# Altium integrated library RADM Components.IntLib: 99 symbols
Pins are listed as number, name and electrical type; pins without a type are passive.

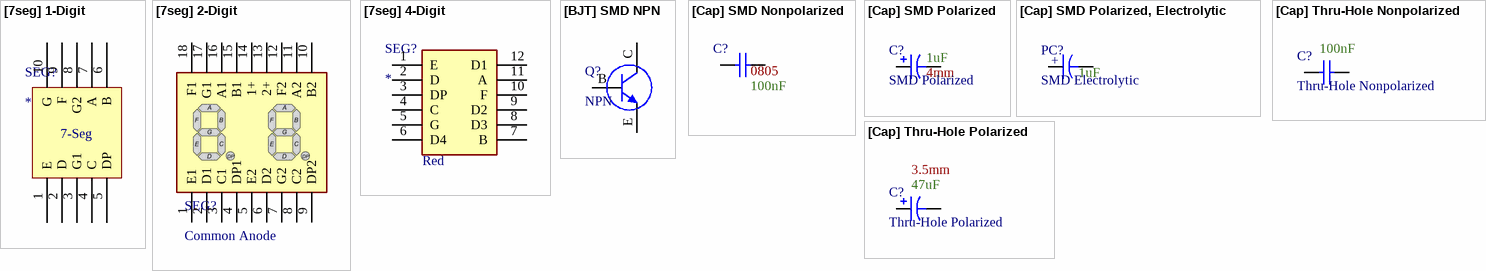
[diagram p0: symbols [7seg] 1-Digit to [Cap] Thru-Hole Polarized]

## [7seg] 1-Digit
designator SEG?
footprint [7Seg] 1 Digit
pins: 1 E (power), 2 D (power), 3 G1 (power), 4 C (power), 5 DP (power), 6 B (power), 7 A (power), 8 G2 (power), 9 F (power), 10 G (power)
text: 7-Seg

## [7seg] 2-Digit
designator SEG?, comment Common Anode
Color: *; Mouser Part #: *
footprint [7seg] 2-Digit
pins: 1 E1, 2 D1, 3 C1, 4 DP1, 5 E2, 6 D2, 7 G2, 8 C2, 9 DP2, 10 B2, 11 A2, 12 F2, 13 2+, 14 1+, 15 B1, 16 A1, 17 G1, 18 F1

## [7seg] 4-Digit
designator SEG?  Color: Red
Mouser Part #: 474-COM-11405
footprint [7seg] 4-Digit
pins: 1 E (power), 2 D (power), 3 DP (power), 4 C (power), 5 G (power), 6 D4 (power), 7 B (power), 8 D3 (power), 9 D2 (power), 10 F (power), 11 A (power), 12 D1 (power)

## [BJT] SMD NPN
designator Q?, comment NPN
footprint [BJT] NPN SMD SOT-89-3
pins: B, C, E

## [Cap] SMD Nonpolarized
designator C?, comment Size Package: 0805  Capacitance: 100nF  (hidden comment: SMD Nonpolarized)
footprint [Cap] SMD 0805
footprint [Cap] SMD 1206
footprint [Cap] SMD 1210
footprint [Cap] SMD 0603
pins: 1, 2

## [Cap] SMD Polarized
designator C?, comment SMD Polarized  Capacitance: 1uF  Diameter: 4mm
JLC Part #: *; Mouser Part #: *
footprint [Cap] SMD Polarized, 4mm
footprint [Cap] SMD Polarized, 6.3mm
footprint [Cap] SMD Polarized, 10mm
pins: 1, 2

## [Cap] SMD Polarized, Electrolytic
designator PC?, comment SMD Electrolytic  Capacitance: 1uF
footprint [Cap] SMD Polarized, Electrolytic
pins: 1, 2
text: +

## [Cap] Thru-Hole Nonpolarized
designator C?, comment Thru-Hole Nonpolarized  Capacitance: 100nF
JLC Part #: *; Mouser Part #: *
footprint [Cap] Thru-Hole Nonpolarized
pins: 1, 2

## [Cap] Thru-Hole Polarized
designator C?, comment Thru-Hole Polarized  Pin Spacing: 3.5mm  Capacitance: 47uF
JLC Part #: *; Mouser Part #: *
footprint [Cap] Thru-Hole Polarized 3.5mm (3.5mm)
footprint [Cap] Thru-Hole Polarized 5mm (5mm)
pins: 1, 2

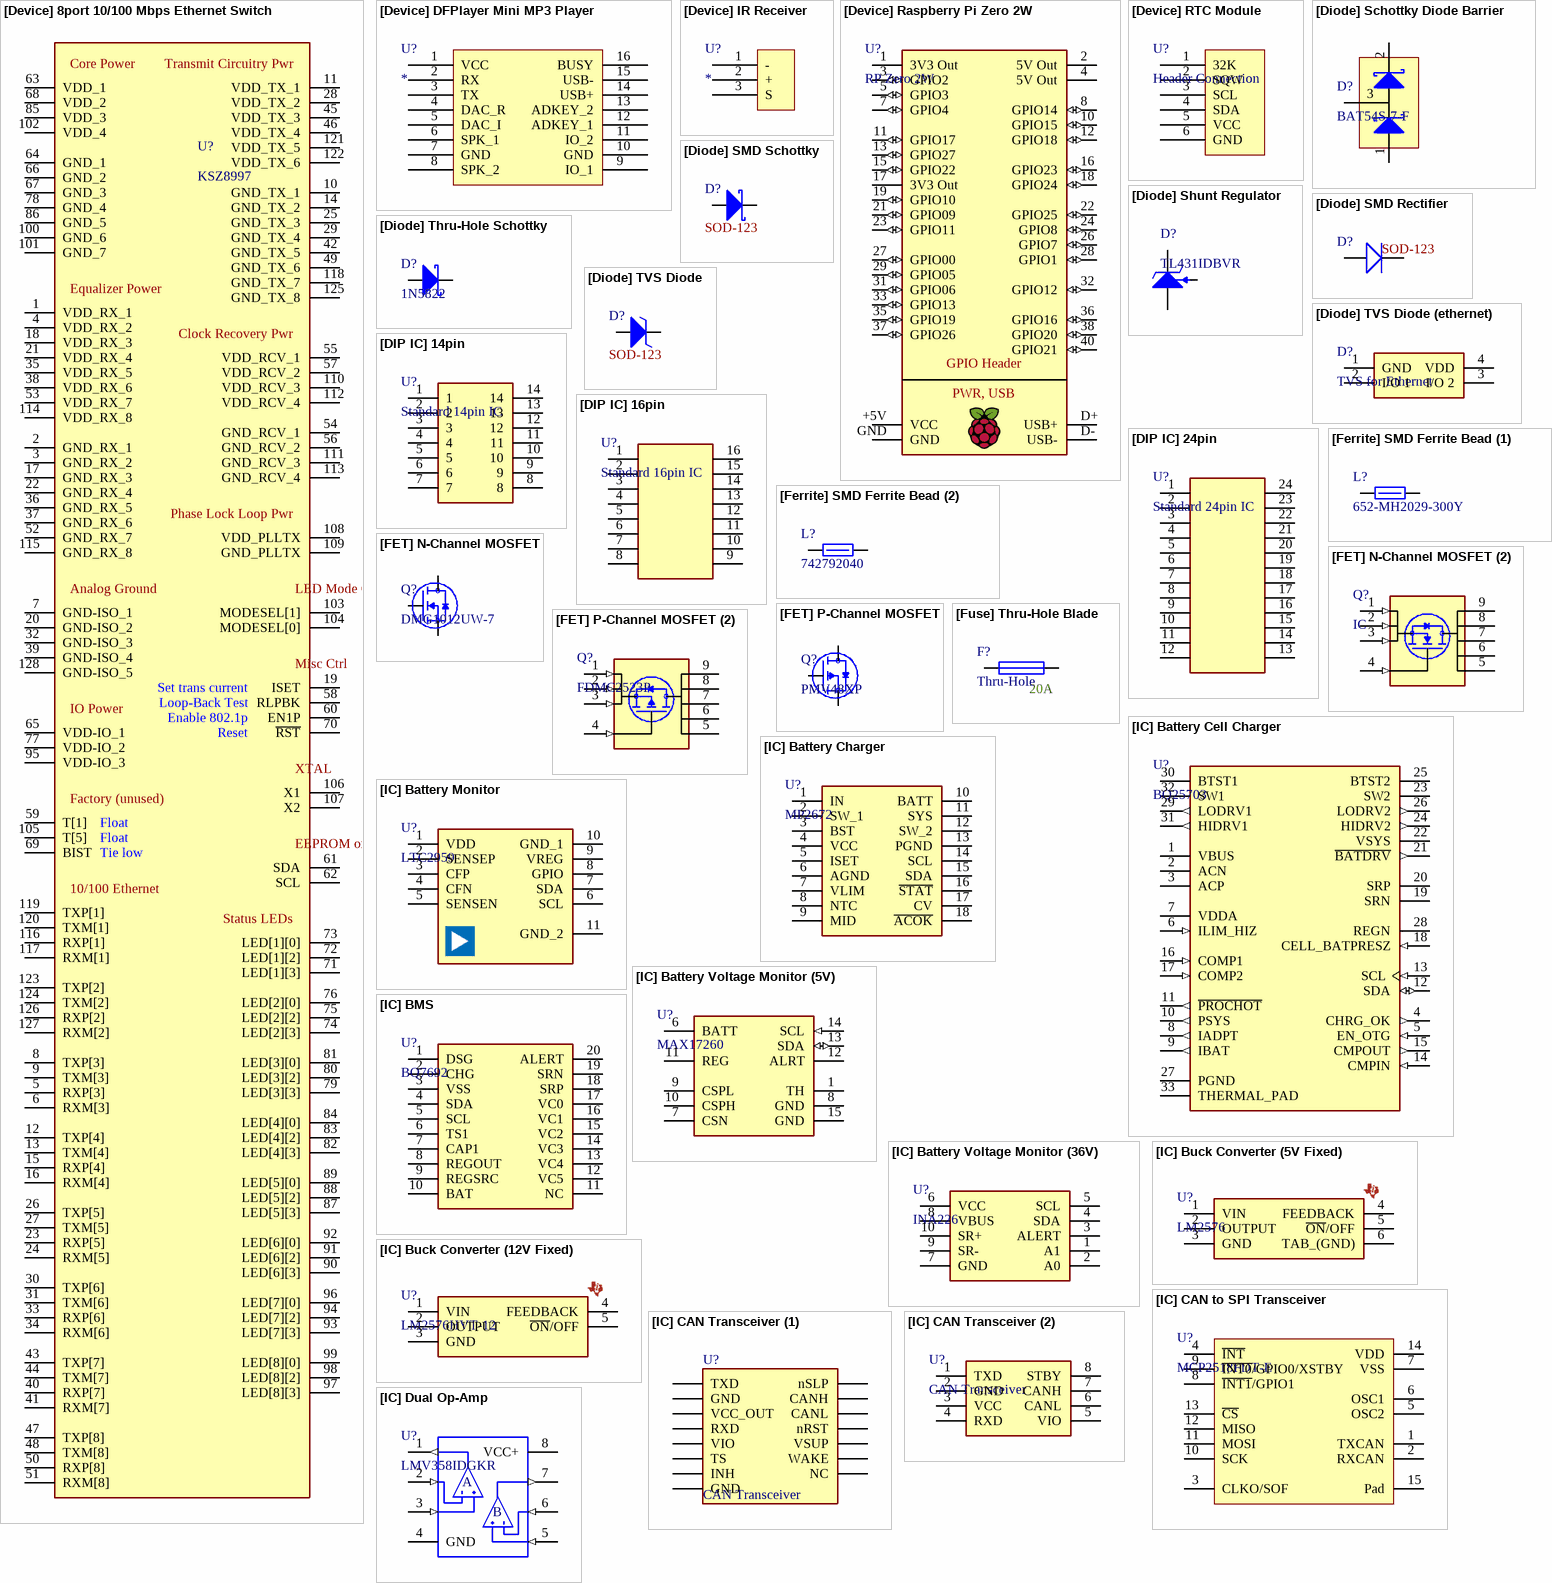
[diagram p1: symbols [Device] 8port 10/100 Mbps Ethernet Switch to [IC] Dual Op-Amp]

## [Device] 8port 10/100 Mbps Ethernet Switch
designator U?, comment KSZ8997
footprint [Device] 8port 10/100 Mbps Ethernet Switch (KSZ8997)
pins: 1 VDD_RX_1, 2 GND_RX_1, 3 GND_RX_2, 4 VDD_RX_2, 5 RXP[3], 6 RXM[3], 7 GND-ISO_1, 8 TXP[3], 9 TXM[3], 10 GND_TX_1, 11 VDD_TX_1, 12 TXP[4], 13 TXM[4], 14 GND_TX_2, 15 RXP[4], 16 RXM[4], 17 GND_RX_3, 18 VDD_RX_3, 19 ISET, 20 GND-ISO_2, 21 VDD_RX_4, 22 GND_RX_4, 23 RXP[5], 24 RXM[5], 25 GND_TX_3, 26 TXP[5], 27 TXM[5], 28 VDD_TX_2, 29 GND_TX_4, 30 TXP[6], 31 TXM[6], 32 GND-ISO_3, 33 RXP[6], 34 RXM[6], 35 VDD_RX_5, 36 GND_RX_5, 37 GND_RX_6, 38 VDD_RX_6, 39 GND-ISO_4, 40 RXP[7], 41 RXM[7], 42 GND_TX_5, 43 TXP[7], 44 TXM[7], 45 VDD_TX_3, 46 VDD_TX_4, 47 TXP[8], 48 TXM[8], 49 GND_TX_6, 50 RXP[8], 51 RXM[8], 52 GND_RX_7, 53 VDD_RX_7, 54 GND_RCV_1, 55 VDD_RCV_1, 56 GND_RCV_2, 57 VDD_RCV_2, 58 RLPBK, 59 T[1], 60 EN1P, 61 SDA, 62 SCL, 63 VDD_1, 64 GND_1, 65 VDD-IO_1, 66 GND_2, 67 GND_3, 68 VDD_2, 69 BIST, 70 ~{RST}, 71 LED[1][3], 72 LED[1][2], 73 LED[1][0], 74 LED[2][3], 75 LED[2][2], 76 LED[2][0], 77 VDD-IO_2, 78 GND_4, 79 LED[3][3], 80 LED[3][2], 81 LED[3][0], 82 LED[4][3], 83 LED[4][2], 84 LED[4][0], 85 VDD_3, 86 GND_5, 87 LED[5][3], 88 LED[5][2], 89 LED[5][0], 90 LED[6][3], 91 LED[6][2], 92 LED[6][0], 93 LED[7][3], 94 LED[7][2], 95 VDD-IO_3, 96 LED[7][0], 97 LED[8][3], 98 LED[8][2], 99 LED[8][0], 100 GND_6, 101 GND_7, 102 VDD_4, 103 MODESEL[1], 104 MODESEL[0], 105 T[5], 106 X1, 107 X2, 108 VDD_PLLTX, 109 GND_PLLTX, 110 VDD_RCV_3, 111 GND_RCV_3, 112 VDD_RCV_4, 113 GND_RCV_4, 114 VDD_RX_8, 115 GND_RX_8, 116 RXP[1], 117 RXM[1], 118 GND_TX_7, 119 TXP[1], 120 TXM[1], 121 VDD_TX_5, 122 VDD_TX_6, 123 TXP[2], 124 TXM[2], 125 GND_TX_8, 126 RXP[2], 127 RXM[2], 128 GND-ISO_5
text: Core Power; Transmit Circuitry Pwr; Equalizer Power; Clock Recovery Pwr; Phase Lock Loop Pwr; Analog Ground; LED Mode Ctrl; Misc Ctrl; Set trans current; Loop-Back Test; IO Power; Enable 802.1p; Reset; XTAL; Factory (unused); Float; Tie low; EEPROM or uP; 10/100 Ethernet; Status LEDs

## [Device] DFPlayer Mini MP3 Player
designator U?
footprint [Device] DFPlayer Mini MP3 Player
pins: 1 VCC (power), 2 RX (power), 3 TX (power), 4 DAC_R (power), 5 DAC_I (power), 6 SPK_1 (power), 7 GND (power), 8 SPK_2 (power), 9 IO_1 (power), 10 GND (power), 11 IO_2 (power), 12 ADKEY_1 (power), 13 ADKEY_2 (power), 14 USB+ (power), 15 USB- (power), 16 BUSY (power)

## [Device] IR Receiver
designator U?
footprint [Device] IR Receiver
pins: 1 - (power), 2 + (power), 3 S (power)

## [Device] Raspberry Pi Zero 2W
designator U?, comment RP Zero 2W
footprint [Device] Raspberry Pi Zero 2W
pins: 1 3V3 Out (power), 2 5V Out (power), 3 GPIO2 (io), 4 5V Out (power), 5 GPIO3 (io), 7 GPIO4 (io), 8 GPIO14 (io), 10 GPIO15 (io), 11 GPIO17 (io), 12 GPIO18 (io), 13 GPIO27 (io), 15 GPIO22 (io), 16 GPIO23 (io), 17 3V3 Out (power), 18 GPIO24 (io), 19 GPIO10 (io), 21 GPIO09 (io), 22 GPIO25 (io), 23 GPIO11 (io), 24 GPIO8 (io), 26 GPIO7 (io), 27 GPIO00 (io), 28 GPIO1 (io), 29 GPIO05 (io), 31 GPIO06 (io), 32 GPIO12 (io), 33 GPIO13 (io), 35 GPIO19 (io), 36 GPIO16 (io), 37 GPIO26 (io), 38 GPIO20 (io), 40 GPIO21 (io), +5V VCC (power), D+ USB+ (power), D- USB- (power), GND (power)
text: GPIO Header; PWR, USB

## [Device] RTC Module
designator U?, comment Header Connection
footprint [Device] RTC Module Header Connection
pins: 1 32K (power), 2 SQW (power), 3 SCL (power), 4 SDA (power), 5 VCC (power), 6 GND (power)

## [Diode] Schottky Diode Barrier
designator D?, comment BAT54S-7-F
footprint [Diode] Schottky Diode Barrier
pins: 1, 2, 3 (power)

## [Diode] Shunt Regulator
designator D?, comment TL431IDBVR
footprint [Diode] Shunt Regulator (TL431IDBVR)
pins: 3 Cathode, 4 Vref, 5 Anode

## [Diode] SMD Rectifier
designator D?, comment Size Package: SOD-123  (hidden comment: Rectifier)
Generic; Mouser Part #: *
footprint [Diode] SMD 1206
footprint [Diode] SMD SOD-323-2
footprint [Diode] SMD SOD-123
footprint [Diode] SMD DO-214AC
footprint [Diode] SMD M7
footprint [Diode] SMD DO-214AA
footprint [Diode] SMD SOD-123W (SMD SOD-123W)
pins: 1 Cathode (power), 2 Anode (power)

## [Diode] SMD Schottky
designator D?, comment Size Package: SOD-123  (hidden comment: Schottky)
Generic
footprint [Diode] SMD 1206
footprint [Diode] SMD DO-214AA
footprint [Diode] SMD DO-214AC
footprint [Diode] SMD M7
footprint [Diode] SMD SOD-123
footprint [Diode] SMD SOD-123W (SMD SOD-123W)
footprint [Diode] SMD SOD-323-2
pins: 1 K (power), 2 A (power)

## [Diode] Thru-Hole Schottky
designator D?, comment 1N5822
Mouser Part #: 511-1N5822
footprint [Diode] Thru-Hole Schottky (1N5822)
pins: 1 K, 2 A

## [Diode] TVS Diode
designator D?, comment Size Package: SOD-123  (hidden comment: TVS/Zener)
Generic
footprint [Diode] SMD DO-214AA
footprint [Diode] SMD 1206
footprint [Diode] SMD DO-214AC
footprint [Diode] SMD M7
footprint [Diode] SMD SOD-123
footprint [Diode] SMD SOD-123W (SMD SOD-123W)
footprint [Diode] SMD SOD-323-2
pins: 1 Cathode, 2 Anode

## [Diode] TVS Diode (ethernet)
designator D?, comment TVS for Ethernet
CD143A-SR2.8
footprint [Diode] TVS Diode (ethernet) (CD143A-SR2.8)
pins: 1 GND, 2 I/O 1, 3 I/O 2, 4 VDD

## [DIP IC] 14pin
designator U?, comment Standard 14pin IC
Mouser Part #: *
footprint [DIP IC] 14pin, IC (Bare IC (no socket))
footprint [DIP IC] 14pin, Socket (IC Socket)
pins: 1, 2, 3, 4, 5, 6, 7, 8, 9, 10, 11, 12, 13, 14

## [DIP IC] 16pin
designator U?, comment Standard 16pin IC
Mouser Part #: *
footprint [DIP IC] 16pin, Socket (IC Socket)
footprint [DIP IC] 16pin, IC (Bare IC (no socket))
pins: 1, 2, 3, 4, 5, 6, 7, 8, 9, 10, 11, 12, 13, 14, 15, 16

## [DIP IC] 24pin
designator U?, comment Standard 24pin IC
Mouser Part #: *
footprint [DIP IC] 24pin, IC
footprint [DIP IC] 24pin, Socket
pins: 1 (power), 2 (power), 3 (power), 4 (power), 5 (power), 6 (power), 7 (power), 8 (power), 9 (power), 10 (power), 11 (power), 12 (power), 13 (power), 14 (power), 15 (power), 16 (power), 17 (power), 18 (power), 19 (power), 20 (power), 21 (power), 22 (power), 23 (power), 24 (power)

## [Ferrite] SMD Ferrite Bead (1)
designator L?, comment 652-MH2029-300Y
Res @ Freq: 30 @ 100MHz; Size Package: 0805
footprint [Ferrite] SMD Bead 0805 (1)
pins: 1, 2

## [Ferrite] SMD Ferrite Bead (2)
designator L?, comment 742792040
Mouser Part #: 710-742792040
footprint [Ferrite] SMD Bead 0805 (2) (742792040)
pins: 1, 2

## [FET] N-Channel MOSFET
designator Q?, comment DMG1012UW-7
footprint [FET] N-Channel Mosfet (DMG1012UW-7)
pins: 1 Gate, 2 Source, 3 Drain

## [FET] N-Channel MOSFET (2)
designator Q?, comment IC
Mouser Part #: 726-BSC057N08NS3G
footprint [FET] N-Channel MOSFET BSC057N08NS3 G (BSC057N08NS3 G)
footprint [FET] N-Channel MOSFET FDMS86250 (FDMS86250)
pins: 1 Source (in), 2 Source (in), 3 Source (in), 4 Gate (in), 5 Drain, 6 Drain, 7 Drain, 8 Drain, 9 Drain

## [FET] P-Channel MOSFET
designator Q?, comment PMV48XP
JLC Part #: C2959854
footprint [FET] P-Channel Mosfet (PMV48XP)
pins: 1 G, 2 S, 3 D

## [FET] P-Channel MOSFET (2)
designator Q?, comment FDMC2523P
footprint [FET] P-Channel MOSFET (2)
pins: 1 Source (in), 2 Source (in), 3 Source (in), 4 Gate (in), 5 Drain, 6 Drain, 7 Drain, 8 Drain, 9 Drain

## [Fuse] Thru-Hole Blade
designator F?, comment Thru-Hole  Capacity: 20A
Mouser Part #: *
footprint [Fuse] Blade (1)
footprint [Fuse] Blade (2)
pins: 1, 2

## [IC] Battery Cell Charger
designator U?, comment BQ25703
BQ25703ARSNT
footprint [IC] Battery Cell Charger (BQ25703ARSNT)
pins: 1 VBUS (power), 2 ACN (power), 3 ACP (power), 4 CHRG_OK (out), 5 EN_OTG (in), 6 ILIM_HIZ (in), 7 VDDA (power), 8 IADPT (out), 9 IBAT (out), 10 PSYS (out), 11 ~{PROCHOT} (out), 12 SDA (io), 13 SCL (in), 14 CMPIN (in), 15 CMPOUT (out), 16 COMP1 (in), 17 COMP2 (in), 18 CELL_BATPRESZ (in), 19 SRN (power), 20 SRP (power), 21 ~{BATDRV} (out), 22 VSYS (power), 23 SW2 (power), 24 HIDRV2 (out), 25 BTST2 (power), 26 LODRV2 (out), 27 PGND (power), 28 REGN (power), 29 LODRV1 (out), 30 BTST1 (power), 31 HIDRV1 (out), 32 SW1 (power), 33 THERMAL_PAD (power)

## [IC] Battery Charger
designator U?, comment MP2672
MP2672GD
footprint [IC] Battery Charger (MP2672GD)
pins: 1 IN, 2 SW_1, 3 BST, 4 VCC, 5 ISET, 6 AGND, 7 VLIM, 8 NTC, 9 MID, 10 BATT, 11 SYS, 12 SW_2, 13 PGND, 14 SCL, 15 SDA, 16 ~{STAT}, 17 CV, 18 ~{ACOK}

## [IC] Battery Monitor
designator U?, comment LTC2959
Mouser Part #: 584-LTC2959IDDBTRMPB
footprint [IC] Battery Monitor (LTC2959)
pins: 1 VDD, 2 SENSEP, 3 CFP, 4 CFN, 5 SENSEN, 6 SCL, 7 SDA, 8 GPIO, 9 VREG, 10 GND_1, 11 GND_2

## [IC] Battery Voltage Monitor (5V)
designator U?, comment MAX17260
MAX17260SETD+
footprint [IC] Battery Voltage Monitor (5V) (MAX17260SETD+)
pins: 1 TH, 6 BATT (power), 7 CSN, 8 GND, 9 CSPL, 10 CSPH, 11 REG (power), 12 ALRT, 13 SDA (io), 14 SCL (in), 15 GND

## [IC] Battery Voltage Monitor (36V)
designator U?, comment INA226
INA226AIDGST
footprint [IC] Battery Voltage Monitor (36V) (INA226AIDGST)
pins: 1 A1, 2 A0, 3 ALERT, 4 SDA, 5 SCL, 6 VCC, 7 GND, 8 VBUS, 9 SR-, 10 SR+

## [IC] BMS
designator U?, comment BQ7692
footprint [IC] BMS (BQ7692)
pins: 1 DSG, 2 CHG, 3 VSS, 4 SDA, 5 SCL, 6 TS1, 7 CAP1, 8 REGOUT, 9 REGSRC, 10 BAT, 11 NC, 12 VC5, 13 VC4, 14 VC3, 15 VC2, 16 VC1, 17 VC0, 18 SRP, 19 SRN, 20 ALERT

## [IC] Buck Converter (5V Fixed)
designator U?, comment LM2576
footprint [IC] Buck Converter (LM2576)
pins: 1 VIN (power), 2 OUTPUT (power), 3 GND (power), 4 FEEDBACK (power), 5 ~{ON}/OFF (power), 6 TAB_(GND) (power)

## [IC] Buck Converter (12V Fixed)
designator U?, comment LM2576HVT-12
footprint [IC] Buck Converter (12V Fixed) (LM2576HVT-12)
pins: 1 VIN (power), 2 OUTPUT (power), 3 GND (power), 4 FEEDBACK (power), 5 ~{ON}/OFF (power)

## [IC] CAN to SPI Transceiver
designator U?, comment MCP2518FDT-E
MCP2518FDT-E/QBB
footprint [IC] CAN to SPI Transceiver (MCP2518FDT-E/QBB)
pins: 1 TXCAN, 2 RXCAN, 3 CLKO/SOF, 4 ~{INT}, 5 OSC2, 6 OSC1, 7 VSS, 8 ~{INT1}/GPIO1, 9 ~{INT0}/GPIO0/XSTBY, 10 SCK, 11 MOSI, 12 MISO, 13 ~{CS}, 14 VDD, 15 Pad

## [IC] CAN Transceiver (1)
designator U?, comment CAN Transceiver
TCAN11623DMTRQ1
footprint [IC] CAN Transceiver (1) (TCAN11623DMTRQ1)
pins: 1 TXD (power), 2 GND (power), 3 VCC_OUT (power), 4 RXD (power), 5 VIO (power), 6 TS (power), 7 INH (power), 8 NC (power), 9 WAKE (power), 10 VSUP (power), 11 nRST (power), 12 CANL (power), 13 CANH (power), 14 nSLP (power), Pad GND (power)

## [IC] CAN Transceiver (2)
designator U?, comment CAN Transceiver
ATA6561-GAQW-N
footprint [IC] CAN Transceiver (2) (ATA6561-GAQW-N)
pins: 1 TXD, 2 GND, 3 VCC, 4 RXD, 5 VIO, 6 CANL, 7 CANH, 8 STBY

## [IC] Dual Op-Amp
designator U?, comment LMV358IDGKR
JLC Part #: C105242
footprint [IC] Dual Op-Ap (LMV358IDGKR)
pins: 1 1OUT (out), 2 1IN- (in), 3 1IN+ (in), 4 GND (power), 5 2IN+ (in), 6 2IN- (in), 7 2OUT (out), 8 VCC+ (power)
text: A; B

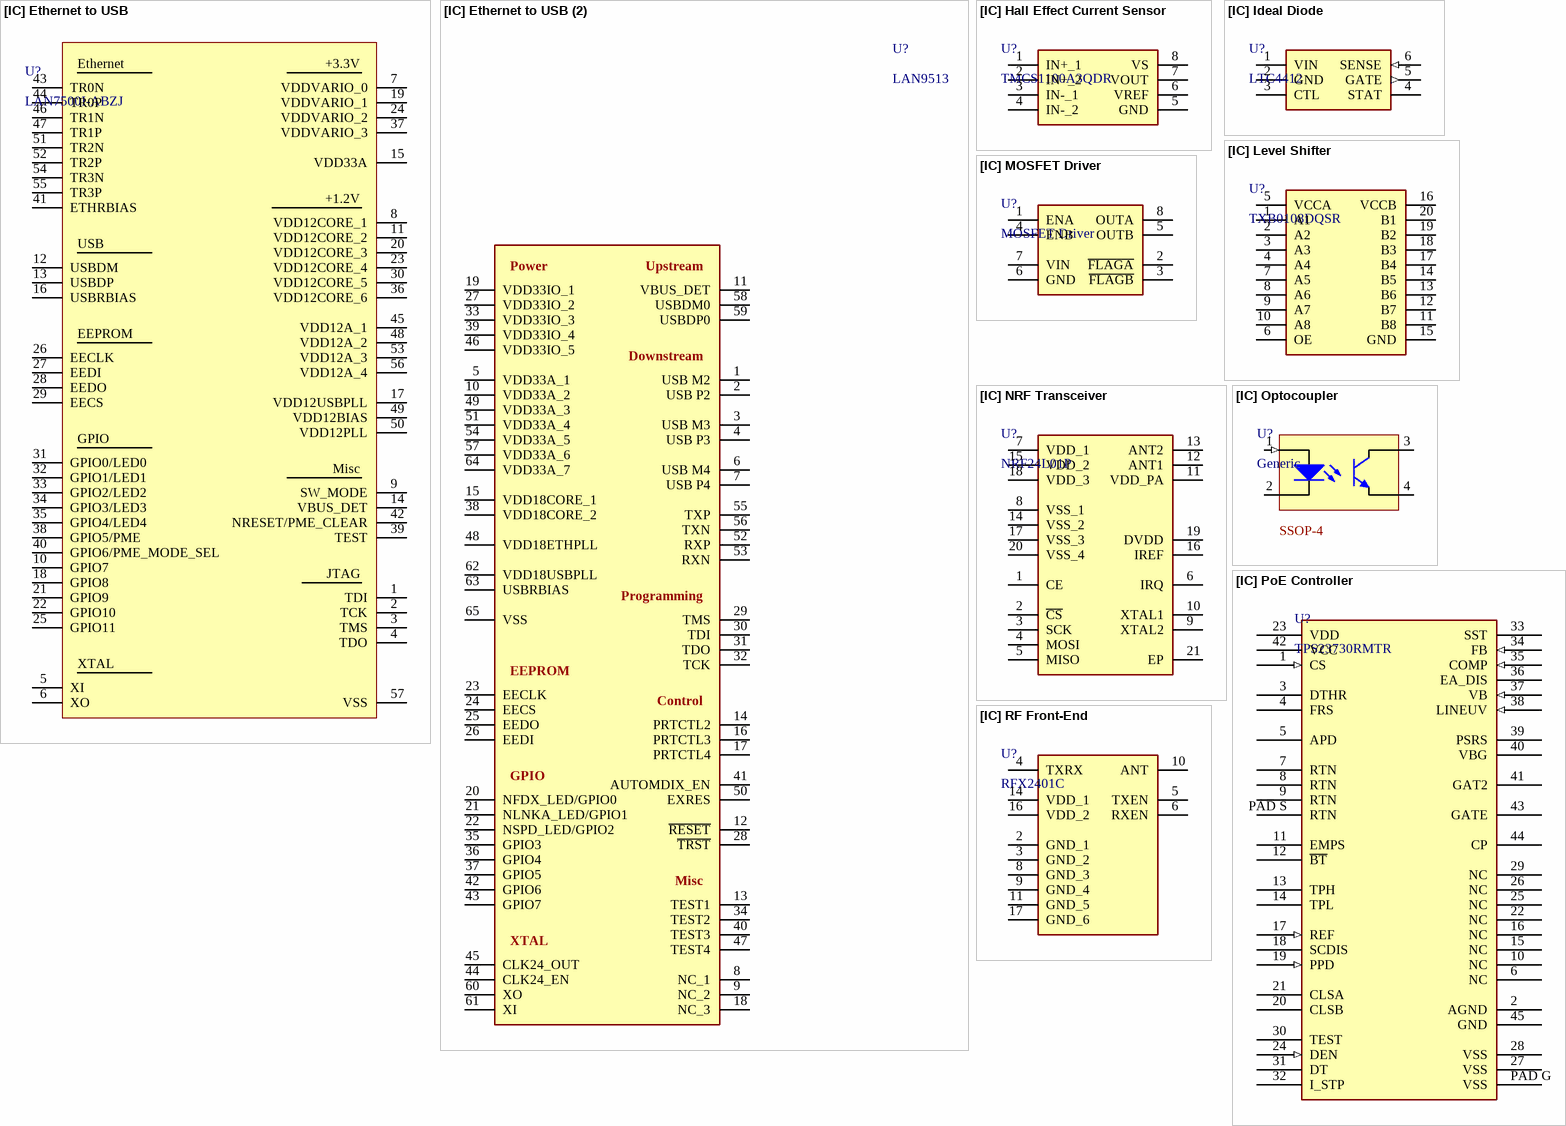
[diagram p2: symbols [IC] Ethernet to USB to [IC] RF Front-End]

## [IC] Ethernet to USB
designator U?, comment LAN7500I-ABZJ
footprint [IC] Ethernet to USB (LAN7500I-ABZJ)
pins: 1 TDI, 2 TCK, 3 TMS, 4 TDO, 5 XI, 6 XO, 7 VDDVARIO_0, 8 VDD12CORE_1, 9 SW_MODE, 10 GPIO7, 11 VDD12CORE_2, 12 USBDM, 13 USBDP, 14 VBUS_DET, 15 VDD33A, 16 USBRBIAS, 17 VDD12USBPLL, 18 GPIO8, 19 VDDVARIO_1, 20 VDD12CORE_3, 21 GPIO9, 22 GPIO10, 23 VDD12CORE_4, 24 VDDVARIO_2, 25 GPIO11, 26 EECLK, 27 EEDI, 28 EEDO, 29 EECS, 30 VDD12CORE_5, 31 GPIO0/LED0, 32 GPIO1/LED1, 33 GPIO2/LED2, 34 GPIO3/LED3, 35 GPIO4/LED4, 36 VDD12CORE_6, 37 VDDVARIO_3, 38 GPIO5/PME, 39 TEST, 40 GPIO6/PME_MODE_SEL, 41 ETHRBIAS, 42 NRESET/PME_CLEAR, 43 TR0N, 44 TR0P, 45 VDD12A_1, 46 TR1N, 47 TR1P, 48 VDD12A_2, 49 VDD12BIAS, 50 VDD12PLL, 51 TR2N, 52 TR2P, 53 VDD12A_3, 54 TR3N, 55 TR3P, 56 VDD12A_4, 57 VSS
text: Ethernet; +3.3V; +1.2V; USB; EEPROM; GPIO; Misc; JTAG; XTAL

## [IC] Ethernet to USB (2)
designator U?, comment LAN9513
footprint [IC] Ethernet to USB (2) (LAN9513)
pins: 1 USB M2, 2 USB P2, 3 USB M3, 4 USB P3, 5 VDD33A_1, 6 USB M4, 7 USB P4, 8 NC_1, 9 NC_2, 10 VDD33A_2, 11 VBUS_DET, 12 ~{RESET}, 13 TEST1, 14 PRTCTL2, 15 VDD18CORE_1, 16 PRTCTL3, 17 PRTCTL4, 18 NC_3, 19 VDD33IO_1, 20 NFDX_LED/GPIO0, 21 NLNKA_LED/GPIO1, 22 NSPD_LED/GPIO2, 23 EECLK, 24 EECS, 25 EEDO, 26 EEDI, 27 VDD33IO_2, 28 ~{TRST}, 29 TMS, 30 TDI, 31 TDO, 32 TCK, 33 VDD33IO_3, 34 TEST2, 35 GPIO3, 36 GPIO4, 37 GPIO5, 38 VDD18CORE_2, 39 VDD33IO_4, 40 TEST3, 41 AUTOMDIX_EN, 42 GPIO6, 43 GPIO7, 44 CLK24_EN, 45 CLK24_OUT, 46 VDD33IO_5, 47 TEST4, 48 VDD18ETHPLL, 49 VDD33A_3, 50 EXRES, 51 VDD33A_4, 52 RXP, 53 RXN, 54 VDD33A_5, 55 TXP, 56 TXN, 57 VDD33A_6, 58 USBDM0, 59 USBDP0, 60 XO, 61 XI, 62 VDD18USBPLL, 63 USBRBIAS, 64 VDD33A_7, 65 VSS
text: Power; Upstream; Downstream; Programming; EEPROM; Control; GPIO; Misc; XTAL

## [IC] Hall Effect Current Sensor
designator U?, comment TMCS1100A3QDR
TMCS1100
footprint [IC] Hall Effect Current Sensor (TMCS1100)
pins: 1 IN+_1, 2 IN+_2, 3 IN-_1, 4 IN-_2, 5 GND, 6 VREF, 7 VOUT, 8 VS

## [IC] Ideal Diode
designator U?, comment LTC4412
footprint [IC] Ideal Diode (LTC4412)
pins: 1 VIN (power), 2 GND (power), 3 CTL, 4 STAT, 5 GATE (out), 6 SENSE (in)

## [IC] Level Shifter
designator U?, comment TXB0108DQSR
footprint [IC] Level Shifter (TXB0108DQSR)
pins: 1 A1, 2 A2, 3 A3, 4 A4, 5 VCCA, 6 OE, 7 A5, 8 A6, 9 A7, 10 A8, 11 B8, 12 B7, 13 B6, 14 B5, 15 GND, 16 VCCB, 17 B4, 18 B3, 19 B2, 20 B1

## [IC] MOSFET Driver
designator U?, comment MOSFET Driver
MIC2026-2YM
footprint [IC] MOSFET Driver (MIC2026-2YM)
pins: 1 ENA, 2 ~{FLAGA}, 3 ~{FLAGB}, 4 ENB, 5 OUTB, 6 GND, 7 VIN, 8 OUTA

## [IC] NRF Transceiver
designator U?, comment NRF24L01P
NRF24L01P-R
footprint [IC] NRF Transceiver (NRF24L01P-R)
pins: 1 CE, 2 ~{CS}, 3 SCK, 4 MOSI, 5 MISO, 6 IRQ, 7 VDD_1, 8 VSS_1, 9 XTAL2, 10 XTAL1, 11 VDD_PA, 12 ANT1, 13 ANT2, 14 VSS_2, 15 VDD_2, 16 IREF, 17 VSS_3, 18 VDD_3, 19 DVDD, 20 VSS_4, 21 EP

## [IC] Optocoupler
designator U?, comment Generic  Footprint: SSOP-4
footprint [IC] Optocoupler 4-SOP (4-SOP)
footprint [IC] Optocoupler SSOP-4 (SSOP-4)
footprint [IC] Optocoupler SOP254P1016X385-4N (SOP254P1016X385-4N)
footprint [IC] Optocoupler 4-PDIP-GW (4-PDIP-GW)
pins: 1 Anode (in), 2 Cathode (power), 3 Collector (power), 4 Emitter (power)

## [IC] PoE Controller
designator U?, comment TPS23730RMTR
Mouser Part #: 595-TPS23730RMTR
footprint [IC] PoE Controller (TPS23730RMTR)
pins: 1 CS (in), 2 AGND (power), 3 DTHR, 4 FRS, 5 APD, 6 NC, 7 RTN (power), 8 RTN (power), 9 RTN (power), 10 NC, 11 EMPS, 12 ~{BT}, 13 TPH, 14 TPL, 15 NC, 16 NC, 17 REF (in), 18 SCDIS, 19 PPD (in), 20 CLSB, 21 CLSA, 22 NC, 23 VDD (power), 24 DEN (in), 25 NC, 26 NC, 27 VSS (power), 28 VSS (power), 29 NC, 30 TEST, 31 DT (power), 32 I_STP (power), 33 SST, 34 FB (in), 35 COMP (in), 36 EA_DIS, 37 VB (in), 38 LINEUV (in), 39 PSRS (power), 40 VBG (power), 41 GAT2, 42 VCC (power), 43 GATE, 44 CP, 45 GND (power), PAD G VSS (power), PAD S RTN (power)

## [IC] RF Front-End
designator U?, comment RFX2401C
footprint [IC] RF Front-End (RFX2401C)
pins: 2 GND_1, 3 GND_2, 4 TXRX, 5 TXEN, 6 RXEN, 8 GND_3, 9 GND_4, 10 ANT, 11 GND_5, 14 VDD_1, 16 VDD_2, 17 GND_6

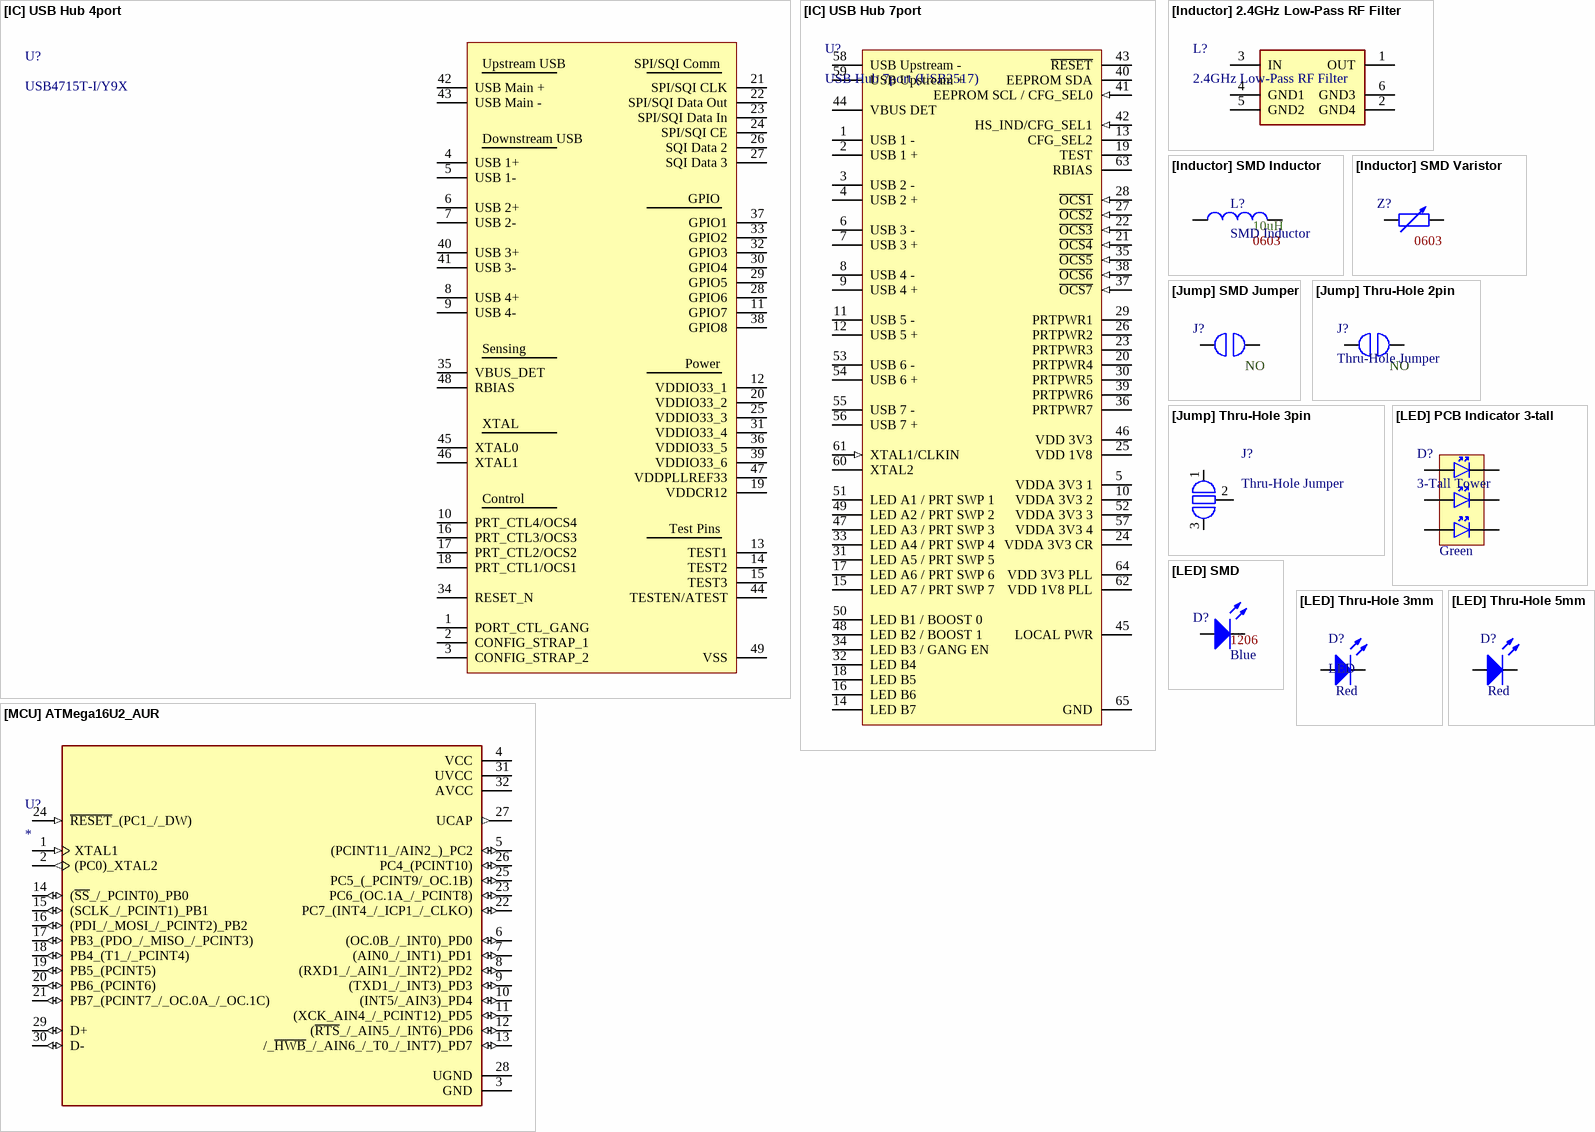
[diagram p3: symbols [IC] USB Hub 4port to [MCU] ATMega16U2_AUR]

## [IC] USB Hub 4port
designator U?, comment USB4715T-I/Y9X
footprint [IC] USB Hub 4port (USB4715T-I/Y9X)
pins: 1 PORT_CTL_GANG, 2 CONFIG_STRAP_1, 3 CONFIG_STRAP_2, 4 USB 1+, 5 USB 1-, 6 USB 2+, 7 USB 2-, 8 USB 4+, 9 USB 4-, 10 PRT_CTL4/OCS4, 11 GPIO7, 12 VDDIO33_1, 13 TEST1, 14 TEST2, 15 TEST3, 16 PRT_CTL3/OCS3, 17 PRT_CTL2/OCS2, 18 PRT_CTL1/OCS1, 19 VDDCR12, 20 VDDIO33_2, 21 SPI/SQI CLK, 22 SPI/SQI Data Out, 23 SPI/SQI Data In, 24 SPI/SQI CE, 25 VDDIO33_3, 26 SQI Data 2, 27 SQI Data 3, 28 GPIO6, 29 GPIO5, 30 GPIO4, 31 VDDIO33_4, 32 GPIO3, 33 GPIO2, 34 RESET_N, 35 VBUS_DET, 36 VDDIO33_5, 37 GPIO1, 38 GPIO8, 39 VDDIO33_6, 40 USB 3+, 41 USB 3-, 42 USB Main +, 43 USB Main -, 44 TESTEN/ATEST, 45 XTAL0, 46 XTAL1, 47 VDDPLLREF33, 48 RBIAS, 49 VSS
text: Upstream USB; SPI/SQI Comm; Downstream USB; GPIO; Sensing; Power; XTAL; Control; Test Pins

## [IC] USB Hub 7port
designator U?, comment USB Hub 7port (USB2517)
USB2517-JZX
footprint [IC] USB Hub 7port (USB2517-JZX)
pins: 1 USB 1 -, 2 USB 1 +, 3 USB 2 -, 4 USB 2 +, 5 VDDA 3V3 1 (power), 6 USB 3 -, 7 USB 3 +, 8 USB 4 -, 9 USB 4 +, 10 VDDA 3V3 2 (power), 11 USB 5 -, 12 USB 5 +, 13 CFG_SEL2, 14 LED B7, 15 LED A7 / PRT SWP 7, 16 LED B6, 17 LED A6 / PRT SWP 6, 18 LED B5, 19 TEST, 20 PRTPWR4, 21 ~{OCS4} (in), 22 ~{OCS3} (in), 23 PRTPWR3, 24 VDDA 3V3 CR (power), 25 VDD 1V8 (power), 26 PRTPWR2, 27 ~{OCS2} (in), 28 ~{OCS1} (in), 29 PRTPWR1, 30 PRTPWR5, 31 LED A5 / PRT SWP 5, 32 LED B4, 33 LED A4 / PRT SWP 4, 34 LED B3 / GANG EN, 35 ~{OCS5} (in), 36 PRTPWR7, 37 ~{OCS7} (in), 38 ~{OCS6} (in), 39 PRTPWR6, 40 EEPROM SDA, 41 EEPROM SCL / CFG_SEL0 (in), 42 HS_IND/CFG_SEL1 (in), 43 ~{RESET}, 44 VBUS DET, 45 LOCAL PWR, 46 VDD 3V3 (power), 47 LED A3 / PRT SWP 3, 48 LED B2 / BOOST 1, 49 LED A2 / PRT SWP 2, 50 LED B1 / BOOST 0, 51 LED A1 / PRT SWP 1, 52 VDDA 3V3 3 (power), 53 USB 6 -, 54 USB 6 +, 55 USB 7 -, 56 USB 7 +, 57 VDDA 3V3 4 (power), 58 USB Upstream -, 59 USB Upstream +, 60 XTAL2, 61 XTAL1/CLKIN (in), 62 VDD 1V8 PLL (power), 63 RBIAS, 64 VDD 3V3 PLL (power), 65 GND

## [Inductor] 2.4GHz Low-Pass RF Filter
designator L?, comment 2.4GHz Low-Pass RF Filter
MLPF-NRG-01D3
footprint [Inductor] 2.4GHz Low-Pass RF Filter (MLPF-NRG-01D3)
pins: 1 OUT, 2 GND4, 3 IN, 4 GND1, 5 GND2, 6 GND3

## [Inductor] SMD Inductor
designator L?, comment SMD Inductor  Size Package: 0603  Inductance: 10uH
JLC Part #: *; Mouser Part #: *
footprint [Inductor] SMD 0603
footprint [Inductor] SMD 1812
footprint [Inductor] SMD 1210
footprint [Inductor] SMD 768775322 (768775322)
footprint [Inductor] SMD 74435571500
pins: 1, 2

## [Inductor] SMD Varistor
designator Z?  Size Package: 0603  (hidden comment: *)
JLC Part #: C840634
footprint [Inductor] SMD Varistor 0603 (CG0603MLC-05E)
pins: 1, 2

## [Jump] SMD Jumper
designator J?  NO/NC: NO  (hidden comment: *)
Solderable jumper
footprint [Jumper] Solderable Jumper
pins: 1, 2

## [Jump] Thru-Hole 2pin
designator J?, comment Thru-Hole Jumper  NO/NC: NO
Clip Jumper
footprint [Jumper] Thru-Hole 2pin
pins: 1, 2

## [Jump] Thru-Hole 3pin
designator J?, comment Thru-Hole Jumper
Clip Jumper; NO/NC: 2,3 NC
footprint [Jumper] Thru-Hole 3pin
pins: 1, 2 Common (power), 3

## [LED] PCB Indicator 3-tall
designator D?, comment 3-Tall Tower  Colors: Green
QLA764B-3G
footprint [LED] PCB Indicator 3-tall (QLA764B-3G)
pins: 1 A1 (power), 2 A2 (power), 3 A3 (power), 4 C1 (power), 5 C2 (power), 6 C3 (power)

## [LED] SMD
designator D?, comment Color: Blue  Size Package: 1206  (hidden comment: SMD LED)
Generic; Part #: *
footprint [LED] SMD 1206
pins: 1 Anode, 2 Cathode

## [LED] Thru-Hole 3mm
designator D?, comment LED  Color: Red
3mm LED
footprint [LED] Thru-Hole, 3mm, Blue
footprint [LED] Thru-Hole, 3mm, Green
footprint [LED] Thru-Hole, 3mm, Orange
footprint [LED] Thru-Hole, 3mm, Red
footprint [LED] Thru-Hole, 3mm, Violet
footprint [LED] Thru-Hole, 3mm, White
footprint [LED] Thru-Hole, 3mm, Yellow
pins: 1 A, 2 K

## [LED] Thru-Hole 5mm
designator D?, comment Color: Red  (hidden comment: LED)
5mm LED
footprint [LED] Thru-Hole 5mm
pins: 1 A, 2 K

## [MCU] ATMega16U2_AUR
designator U?
JLC Part #: C507117
footprint [MCU] ATMega16U2_AUR
pins: 1 XTAL1 (in), 2 (PC0)_XTAL2 (out), 3 GND (power), 4 VCC (power), 5 (PCINT11_/AIN2_)_PC2 (io), 6 (OC.0B_/_INT0)_PD0 (io), 7 (AIN0_/_INT1)_PD1 (io), 8 (RXD1_/_AIN1_/_INT2)_PD2 (io), 9 (TXD1_/_INT3)_PD3 (io), 10 (INT5/_AIN3)_PD4 (io), 11 (XCK_AIN4_/_PCINT12)_PD5 (io), 12 (~{RTS}_/_AIN5_/_INT6)_PD6 (io), 13 /_~{HWB}_/_AIN6_/_T0_/_INT7)_PD7 (io), 14 (~{SS}_/_PCINT0)_PB0 (io), 15 (SCLK_/_PCINT1)_PB1 (io), 16 (PDI_/_MOSI_/_PCINT2)_PB2 (io), 17 PB3_(PDO_/_MISO_/_PCINT3) (io), 18 PB4_(T1_/_PCINT4) (io), 19 PB5_(PCINT5) (io), 20 PB6_(PCINT6) (io), 21 PB7_(PCINT7_/_OC.0A_/_OC.1C) (io), 22 PC7_(INT4_/_ICP1_/_CLKO) (io), 23 PC6_(OC.1A_/_PCINT8) (io), 24 ~{RESET}_(PC1_/_DW) (in), 25 PC5_(_PCINT9/_OC.1B) (io), 26 PC4_(PCINT10) (io), 27 UCAP (out), 28 UGND (power), 29 D+ (io), 30 D- (io), 31 UVCC (power), 32 AVCC (power)

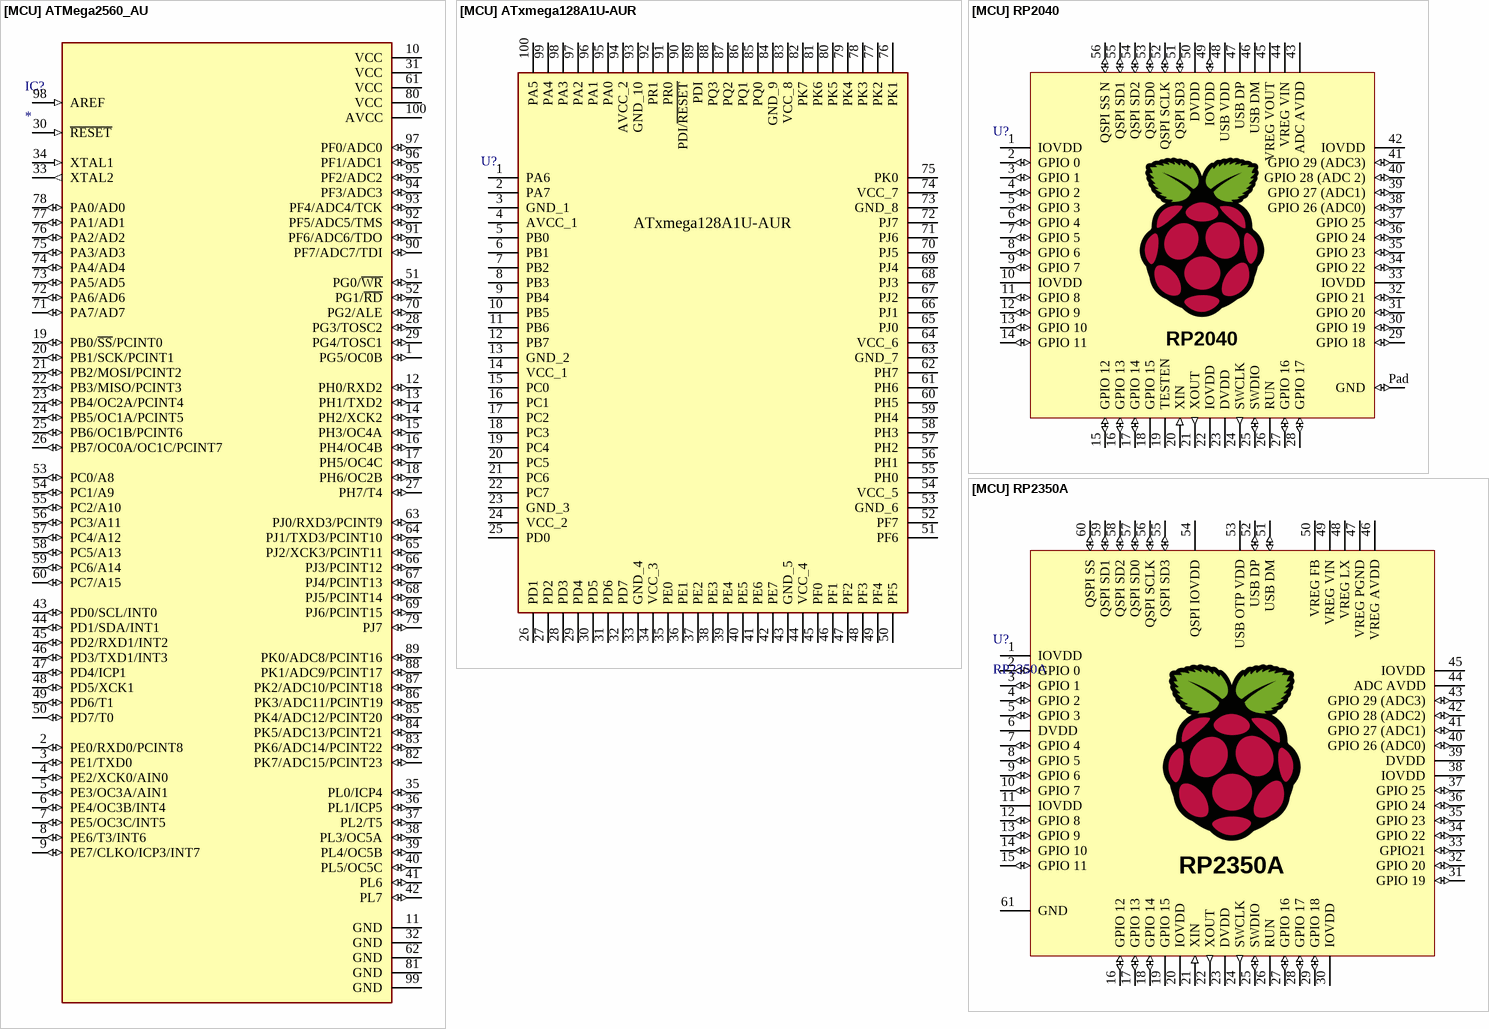
[diagram p4: symbols [MCU] ATMega2560_AU to [MCU] RP2350A]

## [MCU] ATMega2560_AU
designator IC?
JLC Part #: C22460
footprint [MCU] ATMega2560_AU
pins: 1 PG5/OC0B (io), 2 PE0/RXD0/PCINT8 (io), 3 PE1/TXD0 (io), 4 PE2/XCK0/AIN0 (io), 5 PE3/OC3A/AIN1 (io), 6 PE4/OC3B/INT4 (io), 7 PE5/OC3C/INT5 (io), 8 PE6/T3/INT6 (io), 9 PE7/CLKO/ICP3/INT7 (io), 10 VCC (power), 11 GND (power), 12 PH0/RXD2 (io), 13 PH1/TXD2 (io), 14 PH2/XCK2 (io), 15 PH3/OC4A (io), 16 PH4/OC4B (io), 17 PH5/OC4C (io), 18 PH6/OC2B (io), 19 PB0/~{SS}/PCINT0 (io), 20 PB1/SCK/PCINT1 (io), 21 PB2/MOSI/PCINT2 (io), 22 PB3/MISO/PCINT3 (io), 23 PB4/OC2A/PCINT4 (io), 24 PB5/OC1A/PCINT5 (io), 25 PB6/OC1B/PCINT6 (io), 26 PB7/OC0A/OC1C/PCINT7 (io), 27 PH7/T4 (io), 28 PG3/TOSC2 (io), 29 PG4/TOSC1 (io), 30 ~{RESET} (in), 31 VCC (power), 32 GND (power), 33 XTAL2 (out), 34 XTAL1 (in), 35 PL0/ICP4 (io), 36 PL1/ICP5 (io), 37 PL2/T5 (io), 38 PL3/OC5A (io), 39 PL4/OC5B (io), 40 PL5/OC5C (io), 41 PL6 (io), 42 PL7 (io), 43 PD0/SCL/INT0 (io), 44 PD1/SDA/INT1 (io), 45 PD2/RXD1/INT2 (io), 46 PD3/TXD1/INT3 (io), 47 PD4/ICP1 (io), 48 PD5/XCK1 (io), 49 PD6/T1 (io), 50 PD7/T0 (io), 51 PG0/~{WR} (io), 52 PG1/~{RD} (io), 53 PC0/A8 (io), 54 PC1/A9 (io), 55 PC2/A10 (io), 56 PC3/A11 (io), 57 PC4/A12 (io), 58 PC5/A13 (io), 59 PC6/A14 (io), 60 PC7/A15 (io), 61 VCC (power), 62 GND (power), 63 PJ0/RXD3/PCINT9 (io), 64 PJ1/TXD3/PCINT10 (io), 65 PJ2/XCK3/PCINT11 (io), 66 PJ3/PCINT12 (io), 67 PJ4/PCINT13 (io), 68 PJ5/PCINT14 (io), 69 PJ6/PCINT15 (io), 70 PG2/ALE (io), 71 PA7/AD7 (io), 72 PA6/AD6 (io), 73 PA5/AD5 (io), 74 PA4/AD4 (io), 75 PA3/AD3 (io), 76 PA2/AD2 (io), 77 PA1/AD1 (io), 78 PA0/AD0 (io), 79 PJ7 (io), 80 VCC (power), 81 GND (power), 82 PK7/ADC15/PCINT23 (io), 83 PK6/ADC14/PCINT22 (io), 84 PK5/ADC13/PCINT21 (io), 85 PK4/ADC12/PCINT20 (io), 86 PK3/ADC11/PCINT19 (io), 87 PK2/ADC10/PCINT18 (io), 88 PK1/ADC9/PCINT17 (io), 89 PK0/ADC8/PCINT16 (io), 90 PF7/ADC7/TDI (io), 91 PF6/ADC6/TDO (io), 92 PF5/ADC5/TMS (io), 93 PF4/ADC4/TCK (io), 94 PF3/ADC3 (io), 95 PF2/ADC2 (io), 96 PF1/ADC1 (io), 97 PF0/ADC0 (io), 98 AREF (in), 99 GND (power), 100 AVCC (power)

## [MCU] ATxmega128A1U-AUR
designator U?
Mouser Part #: 556-ATXMEGA128A1UAUR; JLC Part #: C2053610; Package: TQFP-100(14x14)
footprint [MCU] Atxmega128A1U-AUR
pins: 1 PA6, 2 PA7, 3 GND_1, 4 AVCC_1, 5 PB0, 6 PB1, 7 PB2, 8 PB3, 9 PB4, 10 PB5, 11 PB6, 12 PB7, 13 GND_2, 14 VCC_1, 15 PC0, 16 PC1, 17 PC2, 18 PC3, 19 PC4, 20 PC5, 21 PC6, 22 PC7, 23 GND_3, 24 VCC_2, 25 PD0, 26 PD1, 27 PD2, 28 PD3, 29 PD4, 30 PD5, 31 PD6, 32 PD7, 33 GND_4, 34 VCC_3, 35 PE0, 36 PE1, 37 PE2, 38 PE3, 39 PE4, 40 PE5, 41 PE6, 42 PE7, 43 GND_5, 44 VCC_4, 45 PF0, 46 PF1, 47 PF2, 48 PF3, 49 PF4, 50 PF5, 51 PF6, 52 PF7, 53 GND_6, 54 VCC_5, 55 PH0, 56 PH1, 57 PH2, 58 PH3, 59 PH4, 60 PH5, 61 PH6, 62 PH7, 63 GND_7, 64 VCC_6, 65 PJ0, 66 PJ1, 67 PJ2, 68 PJ3, 69 PJ4, 70 PJ5, 71 PJ6, 72 PJ7, 73 GND_8, 74 VCC_7, 75 PK0, 76 PK1, 77 PK2, 78 PK3, 79 PK4, 80 PK5, 81 PK6, 82 PK7, 83 VCC_8, 84 GND_9, 85 PQ0, 86 PQ1, 87 PQ2, 88 PQ3, 89 PDI, 90 PDI/~{RESET}, 91 PR0, 92 PR1, 93 GND_10, 94 AVCC_2, 95 PA0, 96 PA1, 97 PA2, 98 PA3, 99 PA4, 100 PA5
text: ATxmega128A1U-AUR

## [MCU] RP2040
designator U?, comment RP2040  (value not drawn)
footprint [MCU] RP2040
pins: 1 IOVDD (power), 2 GPIO 0 (io), 3 GPIO 1 (io), 4 GPIO 2 (io), 5 GPIO 3 (io), 6 GPIO 4 (io), 7 GPIO 5 (io), 8 GPIO 6 (io), 9 GPIO 7 (io), 10 IOVDD (power), 11 GPIO 8 (io), 12 GPIO 9 (io), 13 GPIO 10 (io), 14 GPIO 11 (io), 15 GPIO 12 (io), 16 GPIO 13 (io), 17 GPIO 14 (io), 18 GPIO 15 (power), 19 TESTEN (power), 20 XIN (in), 21 XOUT (out), 22 IOVDD (power), 23 DVDD (power), 24 SWCLK (out), 25 SWDIO (io), 26 RUN, 27 GPIO 16 (io), 28 GPIO 17 (io), 29 GPIO 18 (io), 30 GPIO 19 (io), 31 GPIO 20 (io), 32 GPIO 21 (io), 33 IOVDD (power), 34 GPIO 22 (io), 35 GPIO 23 (io), 36 GPIO 24 (io), 37 GPIO 25 (io), 38 GPIO 26 (ADC0) (io), 39 GPIO 27 (ADC1) (io), 40 GPIO 28 (ADC 2) (io), 41 GPIO 29 (ADC3) (io), 42 IOVDD (power), 43 ADC AVDD (power), 44 VREG VIN (power), 45 VREG VOUT (power), 46 USB DM, 47 USB DP, 48 USB VDD (power), 49 IOVDD (io), 50 DVDD (power), 51 QSPI SD3 (io), 52 QSPI SCLK (io), 53 QSPI SD0 (io), 54 QSPI SD2 (io), 55 QSPI SD1 (io), 56 QSPI SS N (io), Pad GND (io)

## [MCU] RP2350A
designator U?, comment RP2350A
QFN-60 Package
footprint [MCU] RP2350A
pins: 1 IOVDD (power), 2 GPIO 0 (io), 3 GPIO 1 (io), 4 GPIO 2 (io), 5 GPIO 3 (io), 6 DVDD (power), 7 GPIO 4 (io), 8 GPIO 5 (io), 9 GPIO 6 (io), 10 GPIO 7 (io), 11 IOVDD (power), 12 GPIO 8 (io), 13 GPIO 9 (io), 14 GPIO 10 (io), 15 GPIO 11 (io), 16 GPIO 12 (io), 17 GPIO 13 (io), 18 GPIO 14 (io), 19 GPIO 15 (power), 20 IOVDD (power), 21 XIN (in), 22 XOUT (out), 23 DVDD (power), 24 SWCLK (out), 25 SWDIO (io), 26 RUN, 27 GPIO 16 (io), 28 GPIO 17 (io), 29 GPIO 18 (io), 30 IOVDD (power), 31 GPIO 19 (io), 32 GPIO 20 (io), 33 GPIO21 (io), 34 GPIO 22 (io), 35 GPIO 23 (io), 36 GPIO 24 (io), 37 GPIO 25 (io), 38 IOVDD (power), 39 DVDD (power), 40 GPIO 26 (ADC0) (io), 41 GPIO 27 (ADC1) (io), 42 GPIO 28 (ADC2) (io), 43 GPIO 29 (ADC3) (io), 44 ADC AVDD (power), 45 IOVDD (power), 46 VREG AVDD (power), 47 VREG PGND (power), 48 VREG LX (power), 49 VREG VIN (power), 50 VREG FB (power), 51 USB DM (io), 52 USB DP (io), 53 USB OTP VDD (power), 54 QSPI IOVDD (power), 55 QSPI SD3 (io), 56 QSPI SCLK (io), 57 QSPI SD0 (io), 58 QSPI SD2 (io), 59 QSPI SD1 (io), 60 QSPI SS (io), 61 GND (power)

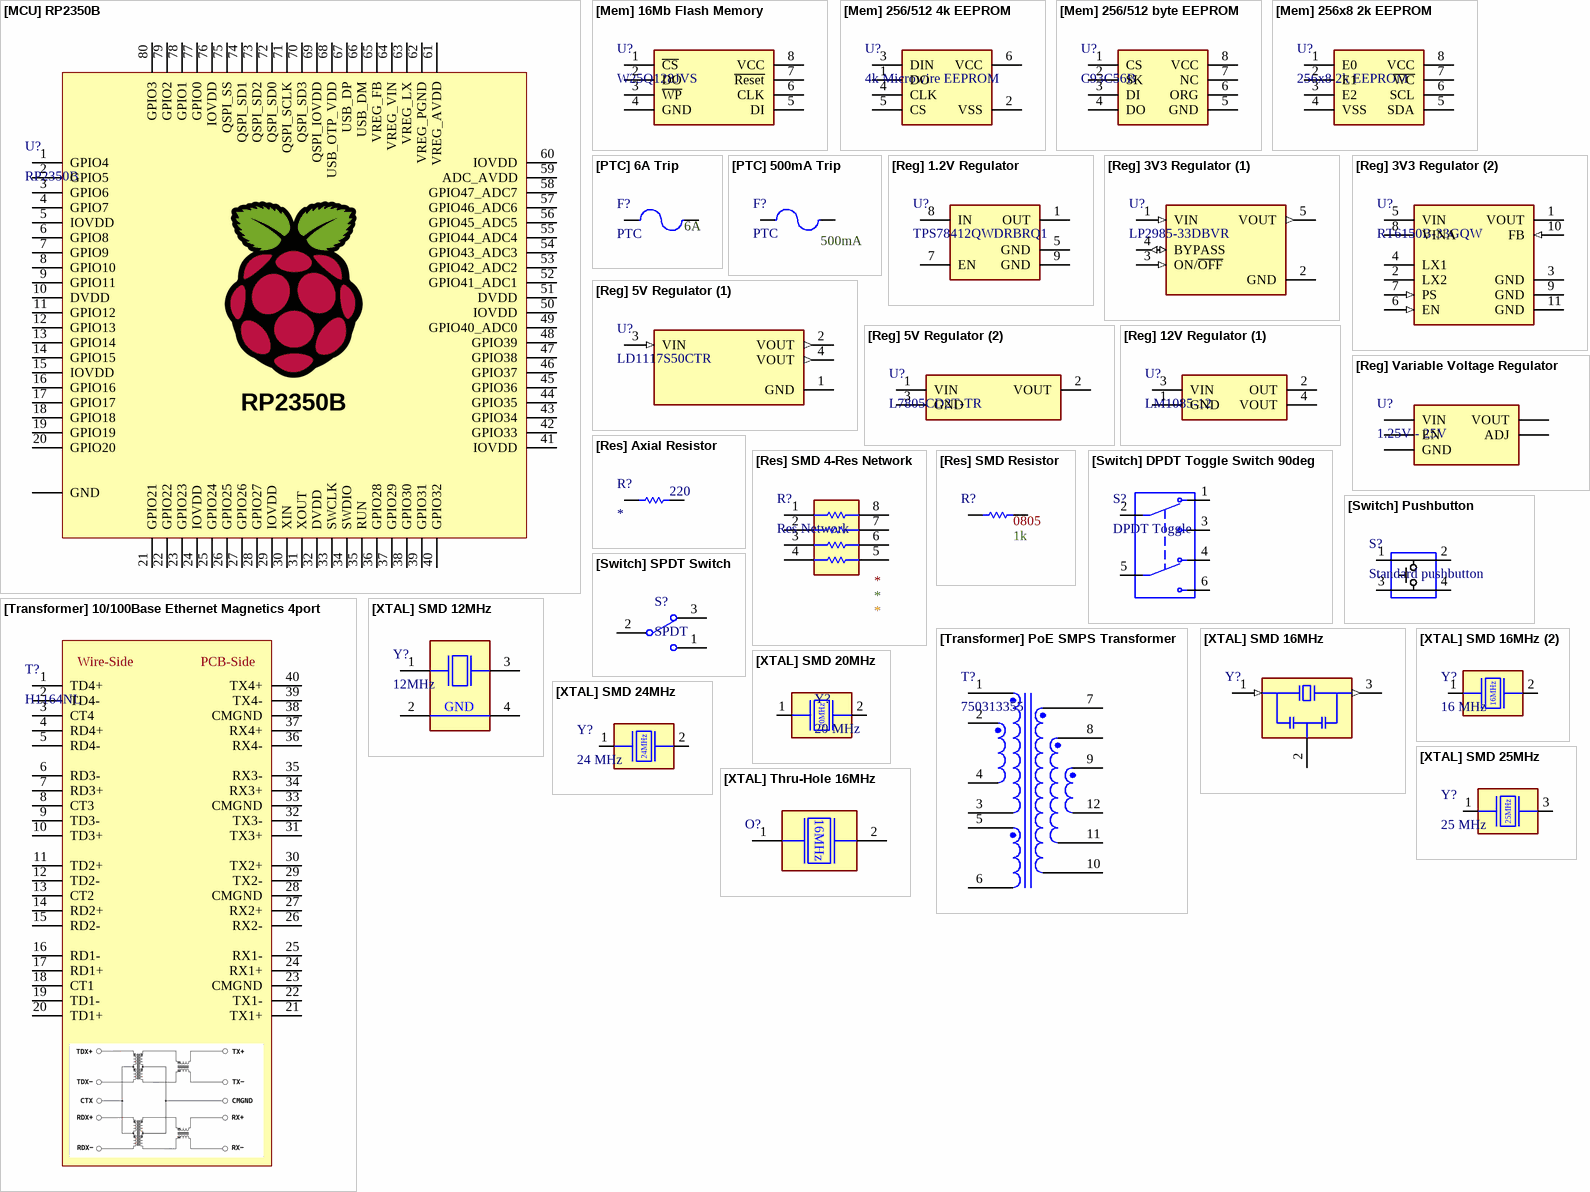
[diagram p5: symbols [MCU] RP2350B to [XTAL] Thru-Hole 16MHz]

## [MCU] RP2350B
designator U?, comment RP2350B
QFN-80 Package
footprint [MCU] RP2350B
pins: 1 GPIO4, 2 GPIO5, 3 GPIO6, 4 GPIO7, 5 IOVDD, 6 GPIO8, 7 GPIO9, 8 GPIO10, 9 GPIO11, 10 DVDD, 11 GPIO12, 12 GPIO13, 13 GPIO14, 14 GPIO15, 15 IOVDD, 16 GPIO16, 17 GPIO17, 18 GPIO18, 19 GPIO19, 20 GPIO20, 21 GPIO21, 22 GPIO22, 23 GPIO23, 24 IOVDD, 25 GPIO24, 26 GPIO25, 27 GPIO26, 28 GPIO27, 29 IOVDD, 30 XIN, 31 XOUT, 32 DVDD, 33 SWCLK, 34 SWDIO, 35 RUN, 36 GPIO28, 37 GPIO29, 38 GPIO30, 39 GPIO31, 40 GPIO32, 41 IOVDD, 42 GPIO33, 43 GPIO34, 44 GPIO35, 45 GPIO36, 46 GPIO37, 47 GPIO38, 48 GPIO39, 49 GPIO40_ADC0, 50 IOVDD, 51 DVDD, 52 GPIO41_ADC1, 53 GPIO42_ADC2, 54 GPIO43_ADC3, 55 GPIO44_ADC4, 56 GPIO45_ADC5, 57 GPIO46_ADC6, 58 GPIO47_ADC7, 59 ADC_AVDD, 60 IOVDD, 61 VREG_AVDD, 62 VREG_PGND, 63 VREG_LX, 64 VREG_VIN, 65 VREG_FB, 66 USB_DM, 67 USB_DP, 68 USB_OTP_VDD, 69 QSPI_IOVDD, 70 QSPI_SD3, 71 QSPI_SCLK, 72 QSPI_SD0, 73 QSPI_SD2, 74 QSPI_SD1, 75 QSPI_SS, 76 IOVDD, 77 GPIO0, 78 GPIO1, 79 GPIO2, 80 GPIO3, Pad GND

## [Mem] 16Mb Flash Memory
designator U?, comment W25Q128JVS
W25Q128JVSIQ TR
footprint [Mem] 16Mb Flash Memory (W25Q128JVSIQ TR)
pins: 1 ~{CS}, 2 DO, 3 ~{WP}, 4 GND, 5 DI, 6 CLK, 7 ~{Reset}, 8 VCC

## [Mem] 256/512 4k EEPROM
designator U?, comment 4k Microwire EEPROM
93LC66AT-I/OT
footprint [Mem] 256/512 4k EEPROM (93LC66AT-I/OT)
pins: 1 DO, 2 VSS, 3 DIN, 4 CLK, 5 CS, 6 VCC

## [Mem] 256/512 byte EEPROM
designator U?, comment C93C56B
AT93C56B-MAHM-T
footprint [Mem] 256/512 byte EEPROM (AT93C56B-MAHM-T)
pins: 1 CS, 2 SK, 3 DI, 4 DO, 5 GND, 6 ORG, 7 NC, 8 VCC

## [Mem] 256x8 2k EEPROM
designator U?, comment 256x8 2k EEPROM
M24C02-DRMN8TP
footprint [Mem] 256x8 2k EEPROM (M24C02-DRMN8TP)
pins: 1 E0, 2 E1, 3 E2, 4 VSS, 5 SDA, 6 SCL, 7 ~{WC}, 8 VCC

## [PTC] 6A Trip
designator F?, comment PTC  Trip Current: 6A
652-MF-USML300/6-2
footprint [PTC] 6A Trip
pins: 1, 2

## [PTC] 500mA Trip
designator F?, comment PTC  Trip Current: 500mA
MF-MSMF050-2 / JLC Part #: C17313; JLC Part #: C17313; Size Package: 1812
footprint [PTC] 500mA Trip (Part #: MF-MSMF050-2)
pins: 1, 2

## [Reg] 1.2V Regulator
designator U?, comment TPS78412QWDRBRQ1
footprint [Reg] 1.2V Regulator
pins: 1 OUT, 5 GND, 7 EN, 8 IN, 9 GND

## [Reg] 3V3 Regulator (1)
designator U?, comment LP2985-33DBVR
JLC Part #: C95414; Mouser Part #: 595-LP2985-33DBVR
footprint [Reg] 3V3 Regulator (1) (Part #: LP2985-33DBVR)
pins: 1 VIN (in), 2 GND (power), 3 ON/~{OFF} (in), 4 BYPASS (io), 5 VOUT (out)

## [Reg] 3V3 Regulator (2)
designator U?, comment RT6150B-33GQW
footprint [Reg] 3V3 Regulator (2) (RT6150B-33GQW)
pins: 1 VOUT (power), 2 LX2 (power), 3 GND (power), 4 LX1 (power), 5 VIN (power), 6 EN (in), 7 PS (in), 8 VINA (power), 9 GND (power), 10 FB (in), 11 GND (power)

## [Reg] 5V Regulator (1)
designator U?, comment LD1117S50CTR
JLC Part #: C81157
footprint [Reg] 5V Regulator (1) (LD1117S50CTR)
pins: 1 GND (power), 2 VOUT (out), 3 VIN (in), 4 VOUT (out)

## [Reg] 5V Regulator (2)
designator U?, comment L7805CD2T-TR
Mouser Part #: 511-L7805CD2T-TR
footprint [Reg] 5V Regulator (2) (511-L7805CD2T-TR)
pins: 1 VIN (power), 2 VOUT (power), 3 GND (power)

## [Reg] 12V Regulator (1)
designator U?, comment LM1085-12
LM1085IS-12/NOPB
footprint [Reg] 12V Regulator (1) (LM1085IS-12/NOPB)
pins: 1 GND (power), 2 OUT (power), 3 VIN (power), 4 VOUT (power)

## [Reg] Variable Voltage Regulator
designator U?, comment 1.25V - 25V
MIC29302WT
footprint [Reg] Variable Voltage Regulator (MIC29302WT)
pins: 1 EN (power), 2 VIN (power), 3 GND (power), 4 VOUT (power), 5 ADJ (power)

## [Res] Axial Resistor
designator R?  Resistance: 220
Generic
footprint [Res] Axial
pins: 1, 2

## [Res] SMD 4-Res Network
designator R?, comment Res Network
Generic; Size Package: *; Tolerance: *; Resistance: *
footprint [Res] SMD 0806 4-Res Network
pins: 1, 2, 3, 4, 5, 6, 7, 8

## [Res] SMD Resistor
designator R?  Resistance: 1k  Size Package: 0805  (hidden comment: *)
Generic
footprint [Res] SMD 1210
footprint [Res] SMD 2010
footprint [Res] SMD 1206
footprint [Res] SMD 4527
footprint [Res] SMD 3921
footprint [Res] SMD 0805
pins: 1, 2

## [Switch] DPDT Toggle Switch 90deg
designator S?, comment DPDT Toggle
100DP1T2B4M6QE
footprint [Switch] DPDT Toggle Switch 90deg (100DP1T2B4M6QE)
pins: 1, 2, 3, 4, 5, 6

## [Switch] Pushbutton
designator S?, comment Standard pushbutton
footprint [Switch] Pushbutton ((Regular pushbutton))
pins: 1 (power), 2 (power), 3 (power), 4 (power)

## [Switch] SPDT Switch
designator S?, comment SPDT
footprint [Switch] SPDT
pins: 1, 2, 3

## [Transformer] 10/100Base Ethernet Magnetics 4port
designator T?, comment H1164NL
footprint [Transformer] 10/100Base Ethernet Magnetics 4port (H1164NL)
pins: 1 TD4+, 2 TD4-, 3 CT4, 4 RD4+, 5 RD4-, 6 RD3-, 7 RD3+, 8 CT3, 9 TD3-, 10 TD3+, 11 TD2+, 12 TD2-, 13 CT2, 14 RD2+, 15 RD2-, 16 RD1-, 17 RD1+, 18 CT1, 19 TD1-, 20 TD1+, 21 TX1+, 22 TX1-, 23 CMGND, 24 RX1+, 25 RX1-, 26 RX2-, 27 RX2+, 28 CMGND, 29 TX2-, 30 TX2+, 31 TX3+, 32 TX3-, 33 CMGND, 34 RX3+, 35 RX3-, 36 RX4-, 37 RX4+, 38 CMGND, 39 TX4-, 40 TX4+
text: Wire-Side; PCB-Side

## [Transformer] PoE SMPS Transformer
designator T?, comment 750313355
footprint [Transformer] PoE SMPS Transformer (750313355)
pins: 1, 2, 3, 4, 5, 6, 7, 8, 9, 10, 11, 12

## [XTAL] SMD 12MHz
designator Y?, comment 12MHz
815-ABM8-272-T3
footprint [XTAL] SMD 12MHz
pins: 1 XTAL1 (power), 2 GND (power), 3 XTAL2 (power), 4 GND (power)

## [XTAL] SMD 16MHz
designator Y?  (value not drawn)
CSTNE16M0V530000R0; JLC Part #: C341521
footprint [XTAL] SMD 16MHz (CSTCE16M0V53-R0)
pins: 1 IN (in), 2 GND (power), 3 OUT (out)

## [XTAL] SMD 16MHz (2)
designator Y?, comment 16 MHz
ABM11-16.000MHZ-12-N1G-T
footprint [XTAL] SMD 16MHz (2) (ABM11-16.000MHZ-12-N1G-T)
pins: 1 XTAL1, 2 XTAL2
text: 16MHz

## [XTAL] SMD 20MHz
designator Y?, comment 20 MHz
20M20P2/49SMT
footprint [XTAL] SMD 20MHz (20M20P2/49SMT)
pins: 1 XTAL1, 2 XTAL2
text: 20MHz

## [XTAL] SMD 24MHz
designator Y?, comment 24 MHz
ECS-240-20-5PX-TR
footprint [XTAL] SMD 24MHz
pins: 1 XTAL1, 2 XTAL2
text: 24MHz

## [XTAL] SMD 25MHz
designator Y?, comment 25 MHz
XRCGB25M000F3M00R0
footprint [XTAL] SMD 25MHz (XRCGB25M000F3M00R0)
pins: 1 XTAL1 (power), 3 XTAL2 (power)
text: 25MHz

## [XTAL] Thru-Hole 16MHz
designator O?  (value not drawn)
2780-HC49US-FF3F18-16.000MHZ-ND (16MHz); JLC Part #: C6873445
footprint [XTAL] Thru-Hole 16MHz (Part #: 2780-HC49US-FF3F18-16.000MHZ-ND)
pins: 1, 2
text: 16MHz